# Altium footprint library SOT-89-3_L4.5-W2.5-P1.50-LS4.2-BR.PcbLib: 1 footprints
Each footprint in its own frame and in the unit in brackets; x right, y up, seen from the top. Pads: shape width x height; smd on the part's side, far side on the other; paste and mask are expansions set on the pad; w line width, h text height; cw(c..) or ccw(c..) is an arc to the next point about the centre after c.
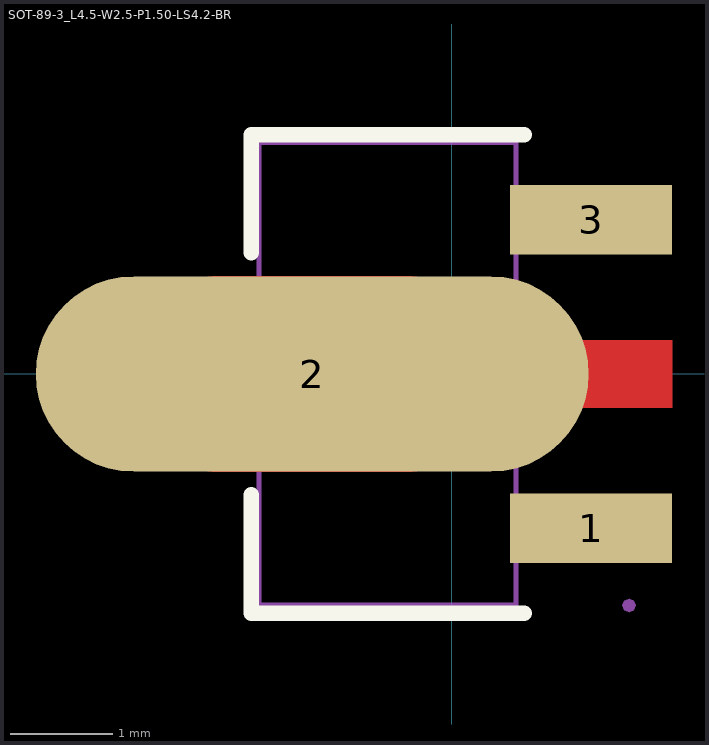
[diagram p0: the footprint, top view; thin cyan lines are the x and y axes]

## SOT-89-3_L4.5-W2.5-P1.50-LS4.2-BR [mm]
pads (3):
  rect 1.575x0.672 smd: 1(1.356,-1.5) 3(1.356,1.5)
  oval 5.377x1.9 smd: 2(-1.356,0)
Top Layer:
  region: -2.283,0.95 -0.429,0.95 -0.384,0.949 -0.34,0.946 -0.296,0.94 -0.252,0.933 -0.208,0.924 -0.165,0.912 -0.123,0.899 -0.081,0.884 -0.04,0.866 0,0.847 0.04,0.826 0.078,0.803 0.115,0.779 0.151,0.752 0.185,0.724 0.219,0.695 0.251,0.664 0.281,0.631 0.31,0.597 0.337,0.562 0.362,0.525 0.386,0.488 0.408,0.449 0.428,0.409 0.447,0.33 2.144,0.33 2.144,-0.33 0.447,-0.33 0.428,-0.409 0.408,-0.449 0.386,-0.488 0.362,-0.526 0.337,-0.562 0.31,-0.597 0.281,-0.631 0.251,-0.664 0.219,-0.695 0.185,-0.725 0.151,-0.753 0.115,-0.779 0.078,-0.804 0.04,-0.827 0,-0.848 -0.04,-0.867 -0.081,-0.884 -0.123,-0.899 -0.165,-0.913 -0.208,-0.924 -0.252,-0.934 -0.296,-0.941 -0.34,-0.946 -0.384,-0.949 -0.429,-0.95 -2.283,-0.95 -2.328,-0.949 -2.372,-0.946 -2.416,-0.941 -2.46,-0.934 -2.504,-0.924 -2.547,-0.913 -2.589,-0.899 -2.631,-0.884 -2.672,-0.867 -2.713,-0.848 -2.752,-0.827 -2.79,-0.804 -2.827,-0.779 -2.863,-0.753 -2.898,-0.725 -2.931,-0.695 -2.963,-0.664 -2.993,-0.631 -3.022,-0.597 -3.049,-0.562 -3.075,-0.526 -3.098,-0.488 -3.12,-0.449 -3.141,-0.409 -3.159,-0.369 -3.175,-0.327 -3.189,-0.285 -3.202,-0.242 -3.212,-0.199 -3.22,-0.155 -3.227,-0.111 -3.231,-0.067 -3.233,-0.022 -3.233,0.022 -3.231,0.067 -3.227,0.111 -3.22,0.155 -3.212,0.199 -3.202,0.242 -3.189,0.285 -3.175,0.327 -3.159,0.369 -3.141,0.409 -3.12,0.449 -3.098,0.488 -3.075,0.525 -3.049,0.562 -3.022,0.597 -2.993,0.631 -2.963,0.664 -2.931,0.695 -2.898,0.724 -2.863,0.752 -2.827,0.779 -2.79,0.803 -2.752,0.826 -2.713,0.847 -2.672,0.866 -2.631,0.884 -2.589,0.899 -2.547,0.912 -2.504,0.924 -2.46,0.933 -2.416,0.94 -2.372,0.946 -2.328,0.949
Top Overlay:
  lines w0.152: -1.95,-1.177 -1.95,-2.326 0.702,-2.326 ; -1.95,1.177 -1.95,2.326 0.702,2.326
Mechanical 6:
  circle w0.3: c1.715,-1.5 r0.15
Mechanical 15:
  region: 1.789,-2.25 1.77,-2.204 1.724,-2.185 1.678,-2.204 1.659,-2.25 1.678,-2.296 1.724,-2.315 1.77,-2.296 1.789,-2.25
  region: 0.439,-0.26 1.724,-0.26 1.724,0.26 0.439,0.26 -0.136,0.863 -2,0.863 -2.471,0.288 -2.471,-0.287 -2,-0.862 -0.136,-0.862
  region: 0.624,-1.25 1.724,-1.25 1.724,-1.75 0.624,-1.75
  region: 0.624,1.75 1.724,1.75 1.724,1.25 0.624,1.25
  lines w0.051: -1.874,-2.25 -1.874,2.25 0.626,2.25 0.626,-2.25 -1.874,-2.25